# Altium footprint library Connectors.PcbLib: 21 footprints (part 2 of 2)
Each footprint in its own frame and in the unit in brackets; x right, y up, seen from the top. Pads: shape width x height; smd on the part's side, far side on the other; paste and mask are expansions set on the pad; w line width, h text height; cw(c..) or ccw(c..) is an arc to the next point about the centre after c.
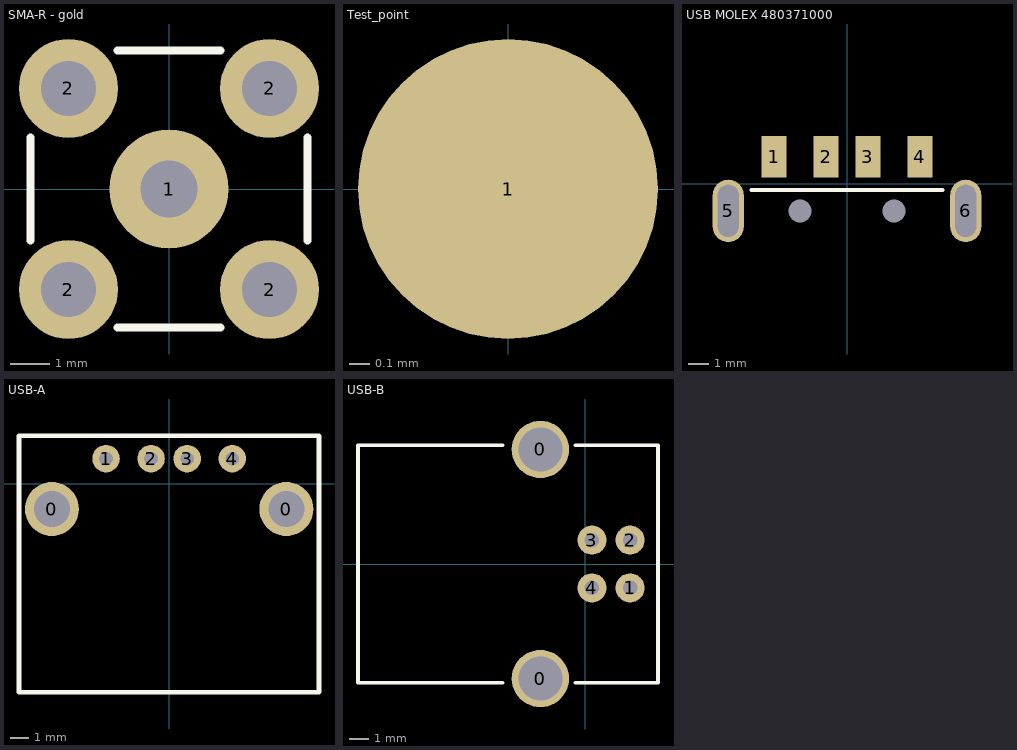
[diagram p1: the footprints below, top view; thin cyan lines are the x and y axes]

## SMA-R - gold [mm]
pads (5):
  round 3 hole 1.45: 1(0,0)
  round 2.5 hole 1.4: 2(-2.54,-2.54) 2(-2.54,2.54) 2(2.54,-2.54) 2(2.54,2.54)
Top Overlay:
  lines w0.2: -3.5,-1.3 -3.5,1.3 ; -1.3,-3.5 1.3,-3.5 ; -1.3,3.5 1.3,3.5 ; 3.5,-1.3 3.5,1.3
3D body "SMA-901-143-6RFX.step": height 9.86, standoff -3.94, extent -3.5,-3.5 3.5,11.6

## Test_point [mm]
pads (1):
  round 1.5 smd: 1(0,0)

## USB MOLEX 480371000 [mm] "CONN, 4-Leads, Body 12x18.8mm"
height 4.6
pads (8):
  rect 1.2x2 smd: 1(-3.5,1.3) 2(-1,1.3) 3(1,1.3) 4(3.5,1.3)
  oval 1.5x3 hole 1 slot 2.5 at 90 deg: 5(-5.7,-1.3) 6(5.7,-1.3)
  round 0.5 hole 1.1 unplated: MH1(-2.25,-1.3) MH2(2.25,-1.3)
Top Overlay:
  lines w0.2: -4.577,-0.3 4.577,-0.3
3D body "480371000.stp": height 3.07, standoff -2.9, extent -6.348,-19.082 6.348,2.198

## USB-A [mil]
height 196.85
pads (6):
  round 118.11 hole 78.74: 0(-255.91,-55) 0(255.91,-55)
  round 60 hole 30: 1(-137.8,55) 2(-39.37,55) 3(39.37,55) 4(137.8,55)
Top Overlay:
  lines w10: -327.8,-455 -327.8,105 327.2,105 327.2,-455 -327.8,-455
3D body "USB_A_PCB.STEP": height 301.38, standoff -142.52, extent -319.08,-456.41 320.05,94.77

## USB-B [mm]
height 12
pads (6):
  round 3 hole 2.3: 0(-2.35,-6) 0(-2.35,6)
  round 1.524 hole 0.762: 1(2.35,-1.25) 2(2.35,1.25) 3(0.35,1.25) 4(0.35,-1.25)
Top Overlay:
  lines w0.2: -4.318,-6.223 -11.9,-6.223 -11.9,6.223 -4.318,6.223 ; -0.508,-6.223 3.81,-6.223 3.81,6.223 -0.508,6.223
3D body "USB-B-S-X-W-TH.STEP": height 11, standoff -3.64, extent -12.708,-7.398 3.792,7.4